# EAGLE library part FTDI-WITH-DTR (library Coert Vonk (backup))
FTDI connector footprints
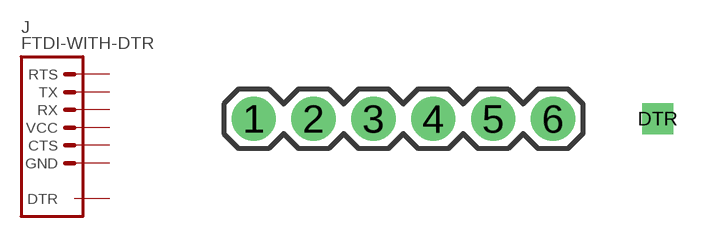
[diagram p8: symbol with the pads of 1X06-DTR; footprint 1X06-DTR]

Designator prefix J

## FTDI-WITH-DTR  [1X06-DTR]
1  RTS  out
2  RX  in
3  TX  out
4  VCC  pwr
5  CTS  in
6  GND  pwr
DTR  DTR  in

## Footprint 1X06-DTR (pad centres in mm)
drill 1.016 pad 1.88: 1 1.27,3.175; 2 3.81,3.175; 3 6.35,3.175; 4 8.89,3.175; 5 11.43,3.175; 6 13.97,3.175
drill 0.8 square: DTR 18.415,3.175